# EAGLE library part MCP6004 (library Amplifiers)
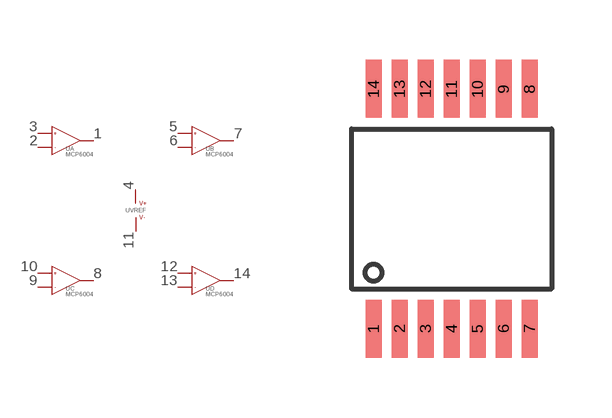
[diagram p0: symbol with the pads of TSSOP-14; footprint TSSOP-14]

Designator prefix U; gates A=OP-AMP C=OP-AMP B=OP-AMP D=OP-AMP VREF=VREF

## MCP6004  [TSSOP-14]
1  A:OUT  pas
2  A:IN-  pas
3  A:IN+  pas
4  VREF:V+  pas
5  B:IN+  pas
6  B:IN-  pas
7  B:OUT  pas
8  C:OUT  pas
9  C:IN-  pas
10  C:IN+  pas
11  VREF:V-  pas
12  D:IN+  pas
13  D:IN-  pas
14  D:OUT  pas

## Footprint TSSOP-14 (pad centres in mm)
smd 0.4 x 1.45: 1 -1.95,-3; 2 -1.3,-3; 3 -0.65,-3; 4 0,-3; 5 0.65,-3; 6 1.3,-3; 7 1.95,-3; 8 1.95,3; 9 1.3,3; 10 0.65,3; 11 0,3; 12 -0.65,3; 13 -1.3,3; 14 -1.95,3